# EAGLE library part 613014243121 (library Wuerth_Elektronik_eiCan_Pin_&_Socked_Headers_v1.3)
WR-PHD Angled Dual Socket Header, 14 Pins
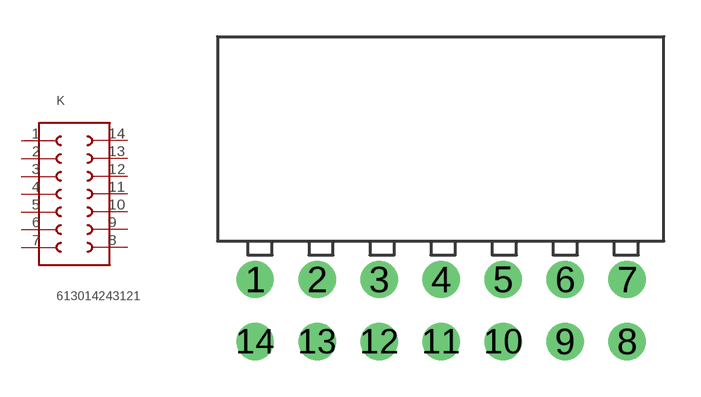
[diagram p170: symbol with the pads of 613014243121; footprint 613014243121]

Designator prefix K

## 613014243121  [613014243121]
1  1  pas
2  2  pas
3  3  pas
4  4  pas
5  5  pas
6  6  pas
7  7  pas
8  8  pas
9  9  pas
10  10  pas
11  11  pas
12  12  pas
13  13  pas
14  14  pas

## Footprint 613014243121 (pad centres in mm)
WR-PHD Angled Dual Socket Header, 14 Pins
drill 1.02 round: 1 -12.7,0; 2 -10.16,0; 3 -7.62,0; 4 -5.08,0; 5 -2.54,0; 6 0,0; 7 2.54,0; 8 2.54,-2.54; 9 0,-2.54; 10 -2.54,-2.54; 11 -5.08,-2.54; 12 -7.62,-2.54; 13 -10.16,-2.54; 14 -12.7,-2.54